# Altium schematic symbol library SKRWAEE030.SchLib: 1 symbol
Pins are listed as number, name and electrical type; pins without a type are passive.

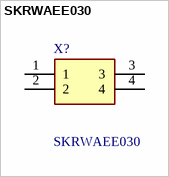
[diagram p0: symbol SKRWAEE030]

## SKRWAEE030
designator X?
Tactile Switches 3.7x3.7x0.35mm 160gf; Manufacturer_Name: ALPS Electric; Geometry.Height: 0.5mm; Mouser Part Number: 688-SKRWAEE030; Mouser Price/Stock: https://www.mouser.co.uk/ProductDetail/Alps-Alpine/SKRWAEE030?qs=4aVxpR%2FL9VKdaQi%252BS4Mesg%3D%3D; Manufacturer_Part_Number: SKRWAEE030; Datasheet Link: https://www.alps.com/prod/info/E/HTML/Tact/SurfaceMount/SKRW/SKRWAEE030.html
footprint SKRWAEE030
pins: 1, 2, 3, 4